# EAGLE library part MCP6V02 (library custom)
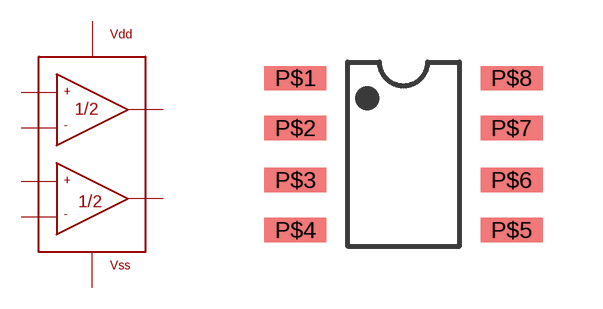
[diagram p6: symbol with the pads of SOIC_8N; footprint SOIC_8N]

Designator prefix U

## MCP6V02  [SOIC_8N]
P$1  VOUT_A  out
P$2  VIN_A-  in
P$3  VIN_A+  in
P$4  VSS  pwr
P$5  VIN_B+  in
P$6  VIN_B-  in
P$7  VOUTB  out
P$8  VDD  pwr

## Footprint SOIC_8N (pad centres in mm)
smd 1.55 x 0.6: P$1 -2.7,1.9; P$2 -2.7,0.65; P$3 -2.7,-0.65; P$4 -2.7,-1.9; P$5 2.7,-1.9; P$6 2.7,-0.65; P$7 2.7,0.65; P$8 2.7,1.9